# Altium footprint library accelerometer.PcbLib: 2 footprints
Each footprint in its own frame and in the unit in brackets; x right, y up, seen from the top. Pads: shape width x height; smd on the part's side, far side on the other; paste and mask are expansions set on the pad; w line width, h text height; cw(c..) or ccw(c..) is an arc to the next point about the centre after c.
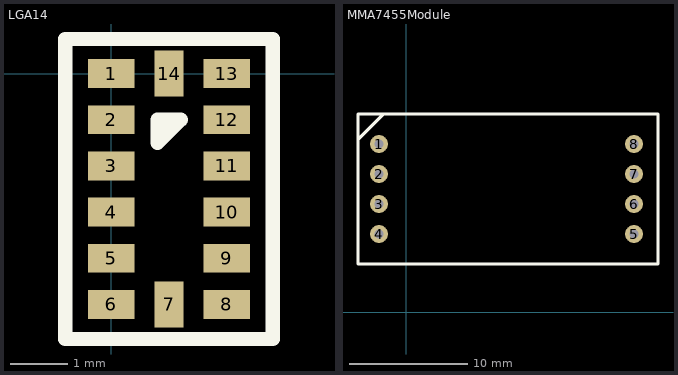
[diagram p0: the footprints below, top view; thin cyan lines are the x and y axes]

## LGA14 [mm]
pads (14):
  rect 0.8x0.5 smd: 1(0,0) 2(0,-0.8) 3(0,-1.6) 4(0,-2.4) 5(0,-3.2) 6(0,-4) 8(2,-4) 9(2,-3.2) 10(2,-2.4) 11(2,-1.6) 12(2,-0.8) 13(2,0)
  rect 0.5x0.8 smd: 7(1,-4) 14(1,0)
Top Overlay:
  lines w0.25: -0.8,-4.6 2.8,-4.6 2.8,0.6 -0.8,0.6 -0.8,-4.6 ; 0.8,-1.2 1.2,-0.8 0.8,-0.8 0.8,-1.2

## MMA7455Module [mil]
height 10
pads (8):
  round 60 hole 30: 1(-90,560) 2(-90,460) 3(-90,360) 4(-90,260) 5(760,260) 6(760,360) 7(760,460) 8(760,560)
Top Overlay:
  lines w10: -157.5,577.5 -77.5,657.5 ; -160,160 840,160 840,660 -160,660 -160,160